# Altium footprint library QFN-28_65.PcbLib: 1 footprints
Each footprint in its own frame and in the unit in brackets; x right, y up, seen from the top. Pads: shape width x height; smd on the part's side, far side on the other; paste and mask are expansions set on the pad; w line width, h text height; cw(c..) or ccw(c..) is an arc to the next point about the centre after c.
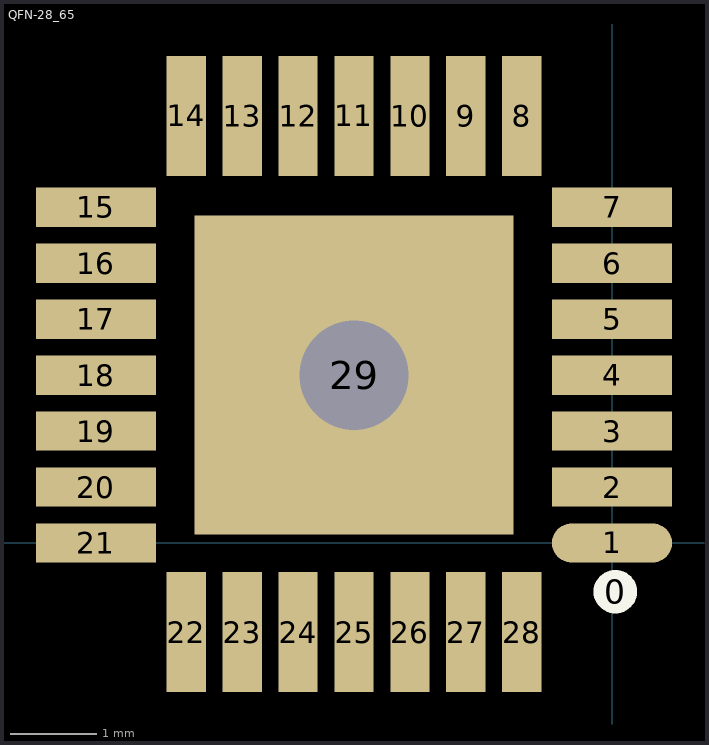
[diagram p0: the footprint, top view; thin cyan lines are the x and y axes]

## QFN-28_65 [mil]
height 40
pads (30):
  round 20 on Top Overlay: 0(1.5,-22.28)
  oval 55x18 smd: 1(0,0)
  rect 55x18 smd: 2(0,25.59) 3(0,51.18) 4(0,76.77) 5(0,102.36) 6(0,127.95) 7(0,153.54) 15(-236,153.54) 16(-236,127.95) 17(-236,102.36) 18(-236,76.77) 19(-236,51.18) 20(-236,25.59) 21(-236,0)
  rect 18x55 smd: 8(-41.23,195.27) 9(-66.82,195.27) 10(-92.41,195.27) 11(-118,195.27) 12(-143.59,195.27) 13(-169.18,195.27) 14(-194.77,195.27) 22(-194.77,-40.73) 23(-169.18,-40.73) 24(-143.59,-40.73) 25(-118,-40.73) 26(-92.41,-40.73) 27(-66.82,-40.73) 28(-41.23,-40.73)
  rect 146x146 / inner round 50 / far side round 50 hole 50: 29(-118,76.77)
3D body: height 40.26, standoff -3.3, extent -236.11,-40.95 0.11,195.27